# Altium footprint library Components - 23.04.26 - 21.10.PcbLib: 3 footprints
Each footprint in its own frame and in the unit in brackets; x right, y up, seen from the top. Pads: shape width x height; smd on the part's side, far side on the other; paste and mask are expansions set on the pad; w line width, h text height; cw(c..) or ccw(c..) is an arc to the next point about the centre after c.
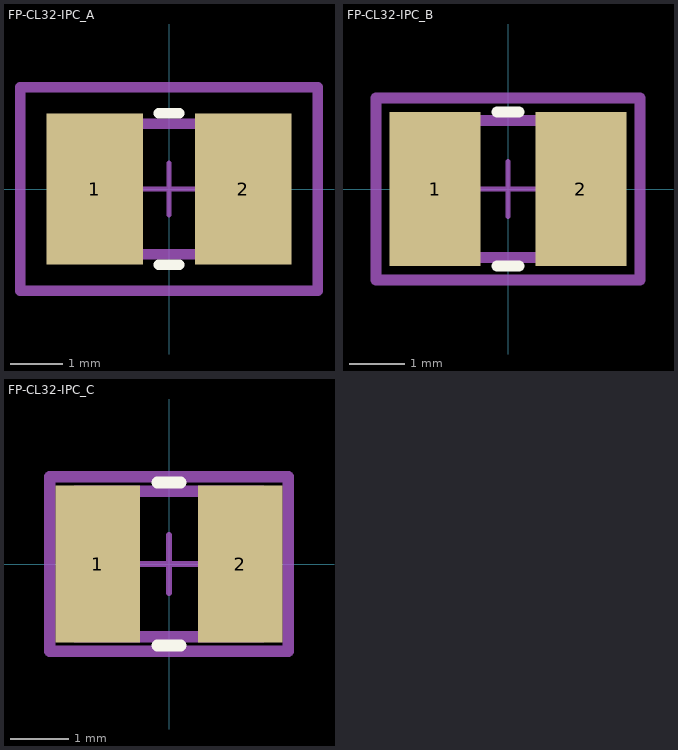
[diagram p0: the footprints below, top view; thin cyan lines are the x and y axes]

## FP-CL32-IPC_A [mm]
pads (2):
  rect 1.853x2.904 smd paste+0 mask+0: 1(-1.425,0) 2(1.425,0)
Top Overlay:
  lines w0.2: -0.199,-1.452 0.199,-1.452 ; -0.199,1.452 0.199,1.452
Top Assembly:
  lines w0.2: -2.852,-1.952 -2.852,1.952 2.852,1.952 2.852,-1.952 -2.852,-1.952
Top 3D Body:
  lines w0.2: -1.6,-1.25 -1.6,1.25 1.6,1.25 1.6,-1.25 -1.6,-1.25
Top Courtyard:
  lines w0.2: -2.852,-1.952 -2.852,1.952 2.852,1.952 2.852,-1.952 -2.852,-1.952
Top Component Center:
  lines w0.1: -0.5,0 0.5,0 ; 0,-0.5 0,0.5
3D body "Cap_Samsung_Electro-Mechanics_America_Inc_CL32C472JBFNNNE_eec.STEP": height 0.25, standoff 0, extent -2.852,-1.952 2.852,1.952

## FP-CL32-IPC_B [mm]
pads (2):
  rect 1.653x2.804 smd paste+0 mask+0: 1(-1.325,0) 2(1.325,0)
Top Overlay:
  lines w0.2: -0.199,-1.402 0.199,-1.402 ; -0.199,1.402 0.199,1.402
Top Assembly:
  lines w0.2: -2.402,-1.652 -2.402,1.652 2.402,1.652 2.402,-1.652 -2.402,-1.652
  text ".Designator" at 0,0.188 h1
Top 3D Body:
  lines w0.2: -1.6,-1.25 -1.6,1.25 1.6,1.25 1.6,-1.25 -1.6,-1.25
Top Courtyard:
  lines w0.2: -2.402,-1.652 -2.402,1.652 2.402,1.652 2.402,-1.652 -2.402,-1.652
Top Component Center:
  lines w0.1: -0.5,0 0.5,0 ; 0,-0.5 0,0.5
3D body "Cap_Samsung_Electro-Mechanics_America_Inc_CL32C472JBFNNNE_eec.STEP": height 0.25, standoff 0, extent -2.402,-1.652 2.402,1.652

## FP-CL32-IPC_C [mm]
pads (2):
  rect 1.453x2.704 smd paste+0 mask+0: 1(-1.225,0) 2(1.225,0)
Top Overlay:
  lines w0.2: -0.199,-1.4 0.199,-1.4 ; -0.199,1.4 0.199,1.4
Top Assembly:
  lines w0.2: -2.052,-1.5 -2.052,1.5 2.052,1.5 2.052,-1.5 -2.052,-1.5
  text ".Designator" at 0,0.188 h1
Top 3D Body:
  lines w0.2: -1.6,-1.25 -1.6,1.25 1.6,1.25 1.6,-1.25 -1.6,-1.25
Top Courtyard:
  lines w0.2: -2.052,-1.5 -2.052,1.5 2.052,1.5 2.052,-1.5 -2.052,-1.5
Top Component Center:
  lines w0.1: -0.5,0 0.5,0 ; 0,-0.5 0,0.5
3D body "Cap_Samsung_Electro-Mechanics_America_Inc_CL32C472JBFNNNE_eec.STEP": height 0.25, standoff 0, extent -2.052,-1.5 2.052,1.5